# EAGLE library part MC33202VDG (library on-semiconductor-01)
Low Voltage, Rail-to-Rail Operational Amplifiers
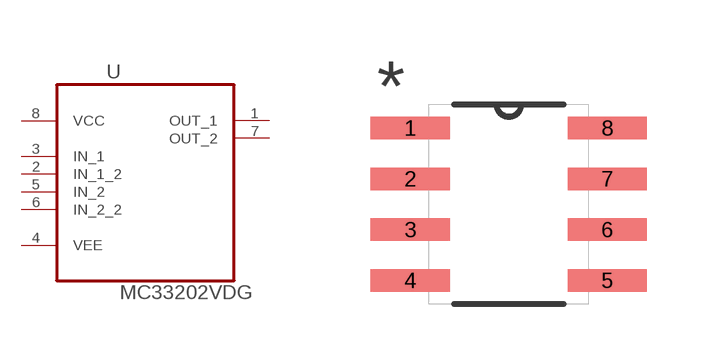
[diagram p368: symbol with the pads of SOIC127P600X175-8N; footprint SOIC127P600X175-8N]

Designator prefix U

## MC33202VDG (MPN: MC33202VDG; OC_FARNELL: 1143534; OC_NEWARK: 26K4016; PACKAGE: SOIC-8; SUPPLIER: ON Semiconductor)  [SOIC127P600X175-8N]
1  OUT_1  out
2  IN_1_2  in
3  IN_1  in
4  VEE  pwr
5  IN_2  in
6  IN_2_2  in
7  OUT_2  out
8  VCC  pwr

## Footprint SOIC127P600X175-8N (pad centres in mm)
smd 1.981 x 0.559: 1 -2.464,1.905; 2 -2.464,0.635; 3 -2.464,-0.635; 4 -2.464,-1.905; 5 2.464,-1.905; 6 2.464,-0.635; 7 2.464,0.635; 8 2.464,1.905